# EAGLE library part 100DP1T1B1M2QEH (library UBCSolar)
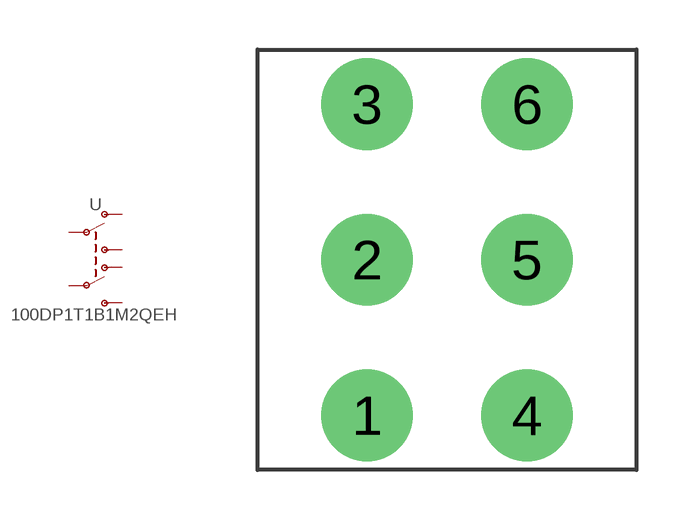
[diagram p16: symbol with the pads of 100DP1T1B1M2QEH; footprint 100DP1T1B1M2QEH]

Designator prefix -

## 100DP1T1B1M2QEH  [100DP1T1B1M2QEH]
1  1  pas
2  2  pas
3  3  pas
4  4  pas
5  5  pas
6  6  pas

## Footprint 100DP1T1B1M2QEH (pad centres in mm)
100DP1T1B1M2QEH DPDT 5A switch https://www.digikey.ca/product-detail/en/e-switch/100DP1T1B1M2QEH/EG2400-ND/378869
drill 1.85: 1 -2.415,-4.7; 2 -2.415,0; 3 -2.415,4.7; 4 2.415,-4.7; 5 2.415,0; 6 2.415,4.7